# Altium footprint library Lab_2.PcbLib: 4 footprints
Each footprint in its own frame and in the unit in brackets; x right, y up, seen from the top. Pads: shape width x height; smd on the part's side, far side on the other; paste and mask are expansions set on the pad; w line width, h text height; cw(c..) or ccw(c..) is an arc to the next point about the centre after c.
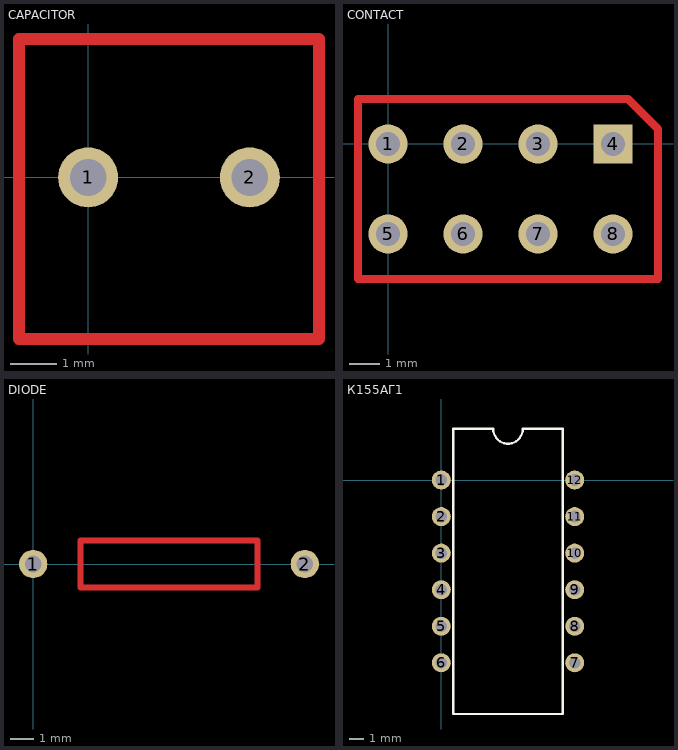
[diagram p0: the footprints below, top view; thin cyan lines are the x and y axes]

## CAPACITOR [mm]
pads (2):
  round 1.3 hole 0.8: 1(0,0) 2(3.5,0)
Top Layer:
  lines w0.254: -1.5,-3.5 5,-3.5 5,2 5,3 -1.5,3 -1.5,-3.5

## CONTACT [mm]
pads (8):
  round 1.3 hole 0.8: 1(0,0) 2(2.5,0) 3(5,0) 5(0,-3) 6(2.5,-3) 7(5,-3) 8(7.5,-3)
  rect 1.3x1.3 hole 0.8: 4(7.5,0)
Top Layer:
  lines w0.254: -1,-4.5 9,-4.5 9,0.5 8,1.5 2.5,1.5 -1,1.5 -1,-4.5

## DIODE [mm]
pads (2):
  round 1.2 hole 0.7 unplated: 1(0,0) 2(11.5,0)
Top Layer:
  lines w0.254: 2,-1 9,-1 9.5,-1 9.5,1 2,1 2,-1

## К155АГ1 [mm]
pads (12):
  round 1.3 hole 0.8: 1(0,0) 2(0,-2.5) 3(0,-5) 4(0,-7.5) 5(0,-10) 6(0,-12.5) 7(9.12,-12.5) 8(9.12,-10) 9(9.12,-7.5) 10(9.12,-5) 11(9.12,-2.5) 12(9.12,0)
Top Overlay:
  lines w0.154: 0.81,-16 8.31,-16 8.31,3.5 5.576,3.5 cw(c4.56,3.5) 3.544,3.5 0.81,3.5 0.81,-16